# EAGLE library part HY931147C (library Dennistries-Josh)
Hanrun RJ45 socket HY931147C
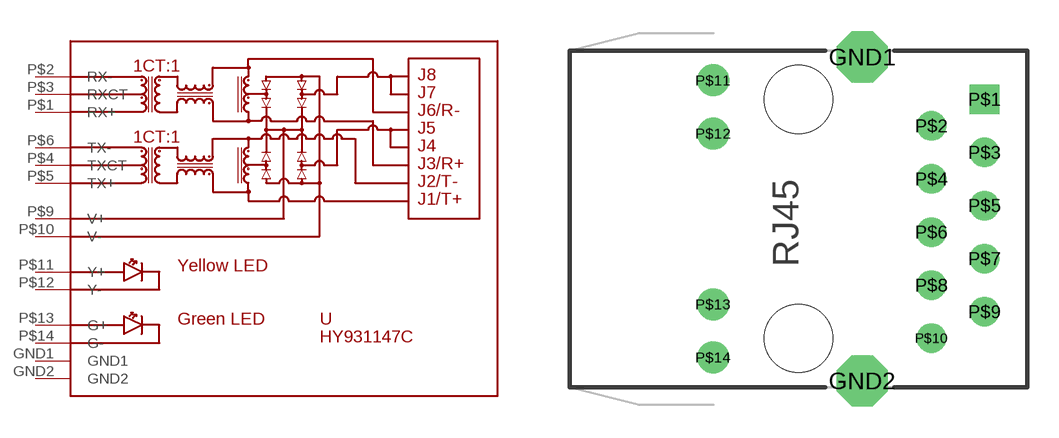
[diagram p58: symbol with the pads of HY931147C; footprint HY931147C]

Designator prefix -

## HY931147C-RJ45  [HY931147C]
GND1  GND1
GND2  GND2
P$1  RX+
P$2  RX-
P$3  RXCT
P$4  TXCT
P$5  TX+
P$6  TX-
P$9  V+
P$10  V-
P$11  Y+
P$12  Y-
P$13  G+
P$14  G-

## Footprint HY931147C (pad centres in mm)
HY931147C RJ45 Ethernet jack with built-in magnetics and PoE support
drill 1.63 octagon: GND1 3.05,7.745; GND2 3.05,-7.745
drill 0.9 square: P$1 8.89,5.715
drill 0.9: P$2 6.35,4.445; P$3 8.89,3.175; P$4 6.35,1.905; P$5 8.89,0.635; P$6 6.35,-0.635; P$7 8.89,-1.905; P$8 6.35,-3.175; P$9 8.89,-4.445; P$10 6.35,-5.715
drill 1.016: P$11 -4.08,6.625; P$12 -4.08,4.085; P$13 -4.08,-4.085; P$14 -4.08,-6.625
hole 3.25 at 0,5.715
hole 3.25 at 0,-5.715